# EAGLE library part LIPO-VREG-LTC4063 (library RemoteParts)
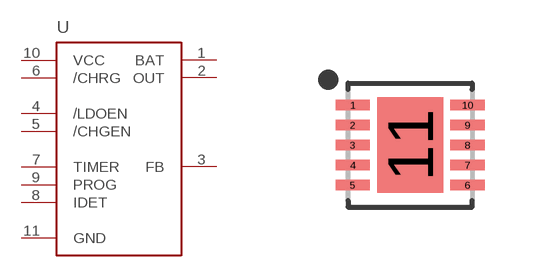
[diagram p3: symbol with the pads of SON50P300X300X80-11T165X238; footprint SON50P300X300X80-11T165X238]

Designator prefix U

## LIPO-VREG-LTC4063 (CREATOR: Swanson; DIST: DIGIKEY; DISTPN: LTC4063EDD#PBF-ND; MOUNTING: SMD)  [SON50P300X300X80-11T165X238]
1  BAT
2  OUT
3  FB
4  /LDOEN
5  /CHGEN
6  /CHRG
7  TIMER
8  IDET
9  PROG
10  VCC
11  GND

## Footprint SON50P300X300X80-11T165X238 (pad centres in mm)
10-SON, 0.50 mm pitch, 3.00 X 3.00 X 0.80 mm body, 2.38 X 1.65 mm thermal pad 10-pin SON package with 0.50 mm pitch with body size 3.00 X 3.00 X 0.80 mm and thermal pad size 2.38 X 1.65 mm
smd 0.86 x 0.27: 1 -1.435,1; 2 -1.435,0.5; 3 -1.435,0; 4 -1.435,-0.5; 5 -1.435,-1; 6 1.435,-1; 7 1.435,-0.5; 8 1.435,0; 9 1.435,0.5; 10 1.435,1
smd 1.65 x 2.38: 11 0,0